# Altium schematic symbol library XH-2A_C29086001_XH-2A_C2908600.schdoc.SCHLIB: 1 symbol
Pins are listed as number, name and electrical type; pins without a type are passive.

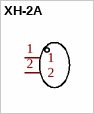
[diagram p0: symbol XH-2A]

## XH-2A
designator CN??  (value not drawn)
Symbol: XH-2A_C2908600; Add into BOM: yes; Pins Structure: 1x2P; Pitch: 2.5mm; Number of PINs Per Row: 2; Reference Series: XH; Current Rating (Max): 3A; Device: XH-2A; Supplier: LCSC; Supplier Part: C2908600; Manufacturer Part: XH-2A; JLCPCB Part Class: Extended Part; Datasheet: https://atta.szlcsc.com/upload/public/pdf/source/20230711/68D365716984B4AFE576D1D73D61B465.pdf; Convert to PCB: yes; Row Spacing: -; Number of Pins: 2P; Number of Rows: 1
footprint CONN-TH_2P-P2.50_HCTL_XH-2A-X
pins: 1, 2